# Altium footprint library 山外KEA核心板.PcbLib: 1 footprints
Each footprint in its own frame and in the unit in brackets; x right, y up, seen from the top. Pads: shape width x height; smd on the part's side, far side on the other; paste and mask are expansions set on the pad; w line width, h text height; cw(c..) or ccw(c..) is an arc to the next point about the centre after c.
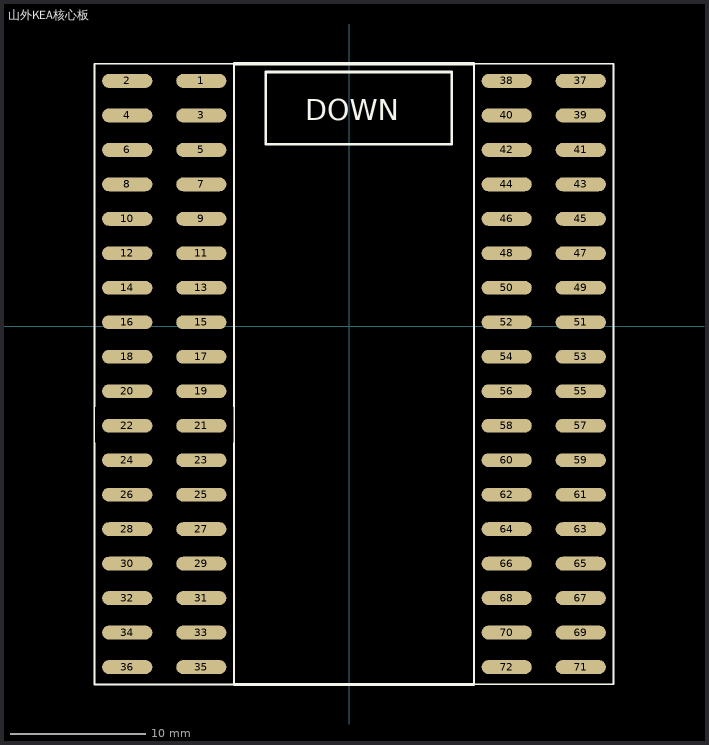
[diagram p0: the footprint, top view; thin cyan lines are the x and y axes]

## 山外KEA核心板 [mil]
pads (76):
  round 0 on Mech1: 1(-695.39,-309.39) 1(-695.39,-209.39) 1(405.11,-309.39) 1(405.11,-209.39)
  oval 145.67x40.16 smd: 1(-429.5,711) 2(-644.5,711) 3(-429.5,611) 4(-644.5,611) 5(-429.5,511) 6(-644.5,511) 7(-429.5,411) 8(-644.5,411) 9(-429.5,311) 10(-644.5,311) 11(-429.5,211) 12(-644.5,211) 13(-429.5,111) 14(-644.5,111) 15(-429.5,11) 16(-644.5,11) 17(-429.5,-89) 18(-644.5,-89) 19(-429.5,-189) 20(-644.5,-189) 21(-429.5,-289) 22(-644.5,-289) 23(-429.5,-389) 24(-644.5,-389) 25(-429.5,-489) 26(-644.5,-489) 27(-429.5,-589) 28(-644.5,-589) 29(-429.5,-689) 30(-644.5,-689) 31(-429.5,-789) 32(-644.5,-789) 33(-429.5,-889) 34(-644.5,-889) 35(-429.5,-989) 36(-644.5,-989) 37(671,711) 38(456,711) 39(671,611) 40(456,611) 41(671,511) 42(456,511) 43(671,411) 44(456,411) 45(671,311) 46(456,311) 47(671,211) 48(456,211) 49(671,111) 50(456,111) 51(671,11) 52(456,11) 53(671,-89) 54(456,-89) 55(671,-189) 56(456,-189) 57(671,-289) 58(456,-289) 59(671,-389) 60(456,-389) 61(671,-489) 62(456,-489) 63(671,-589) 64(456,-589) 65(671,-689) 66(456,-689) 67(671,-789) 68(456,-789) 69(671,-889) 70(456,-889) 71(671,-989) 72(456,-989)
Top Overlay:
  lines w4: -739.5,-339 -739.5,-234 ; -739.5,761 -334.5,761 ; -334.5,-339 -334.5,-234 ; 361,761 766,761
  lines w5: -739.5,-339 -739.5,-1039.5 -334.5,-1039.5 -334.5,-339 ; -739.5,-234 -739.5,761 ; -334.5,-234 -334.5,761 ; 361,761 361,-234 361,-1039 766,-1039 766,-234 766,761
  lines w7.87: -243,527 -243,737 297,737 297,527 -243,527
  lines w10: -334.5,-1039.5 360.5,-1039.5 ; -334.5,761 361,761
  text "DOWN" at -128,597 h60
3D body: height 181.1, standoff 0, extent 464,-1039 664,761
3D body: height 181.1, standoff 0, extent -637,-1039 -437,761